# Altium schematic symbol library Header-6p.SchLib: 1 symbol
Pins are listed as number, name and electrical type; pins without a type are passive.

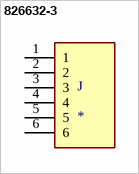
[diagram p0: symbol 826632-3]

## 826632-3
designator J
Conn Unshrouded Header HDR 6 POS 2.54mm Solder ST Thru-Hole Automotive Carton; MF: TE Connectivity; MP: 826632-3; Package: None; EU_RoHS_Compliance: Compliant; Price: None; TE_purchase_URL: https://www.te.com/usa-en/product-826632-3.html?te_bu=Cor&te_type=disp&te_campaign=seda_glo_cor-seda-global-disp-prtnr-fy19-seda-model-bom-cta_sma-317_1&elqCampaignId=32493; SnapEDA_Link: https://www.snapeda.com/parts/826632-3/TE%20Connectivity%20AMP%20Connectors/view-part/495688/?ref=snap; Availability: Unavailable; Value: *
footprint TE_826632-3
pins: 1, 2, 3, 4, 5, 6